# Altium footprint library Connector_Phoenix_GMSTB.PcbLib: 88 footprints (part 5 of 6)
Each footprint in its own frame and in the unit in brackets; x right, y up, seen from the top. Pads: shape width x height; smd on the part's side, far side on the other; paste and mask are expansions set on the pad; w line width, h text height; cw(c..) or ccw(c..) is an arc to the next point about the centre after c.
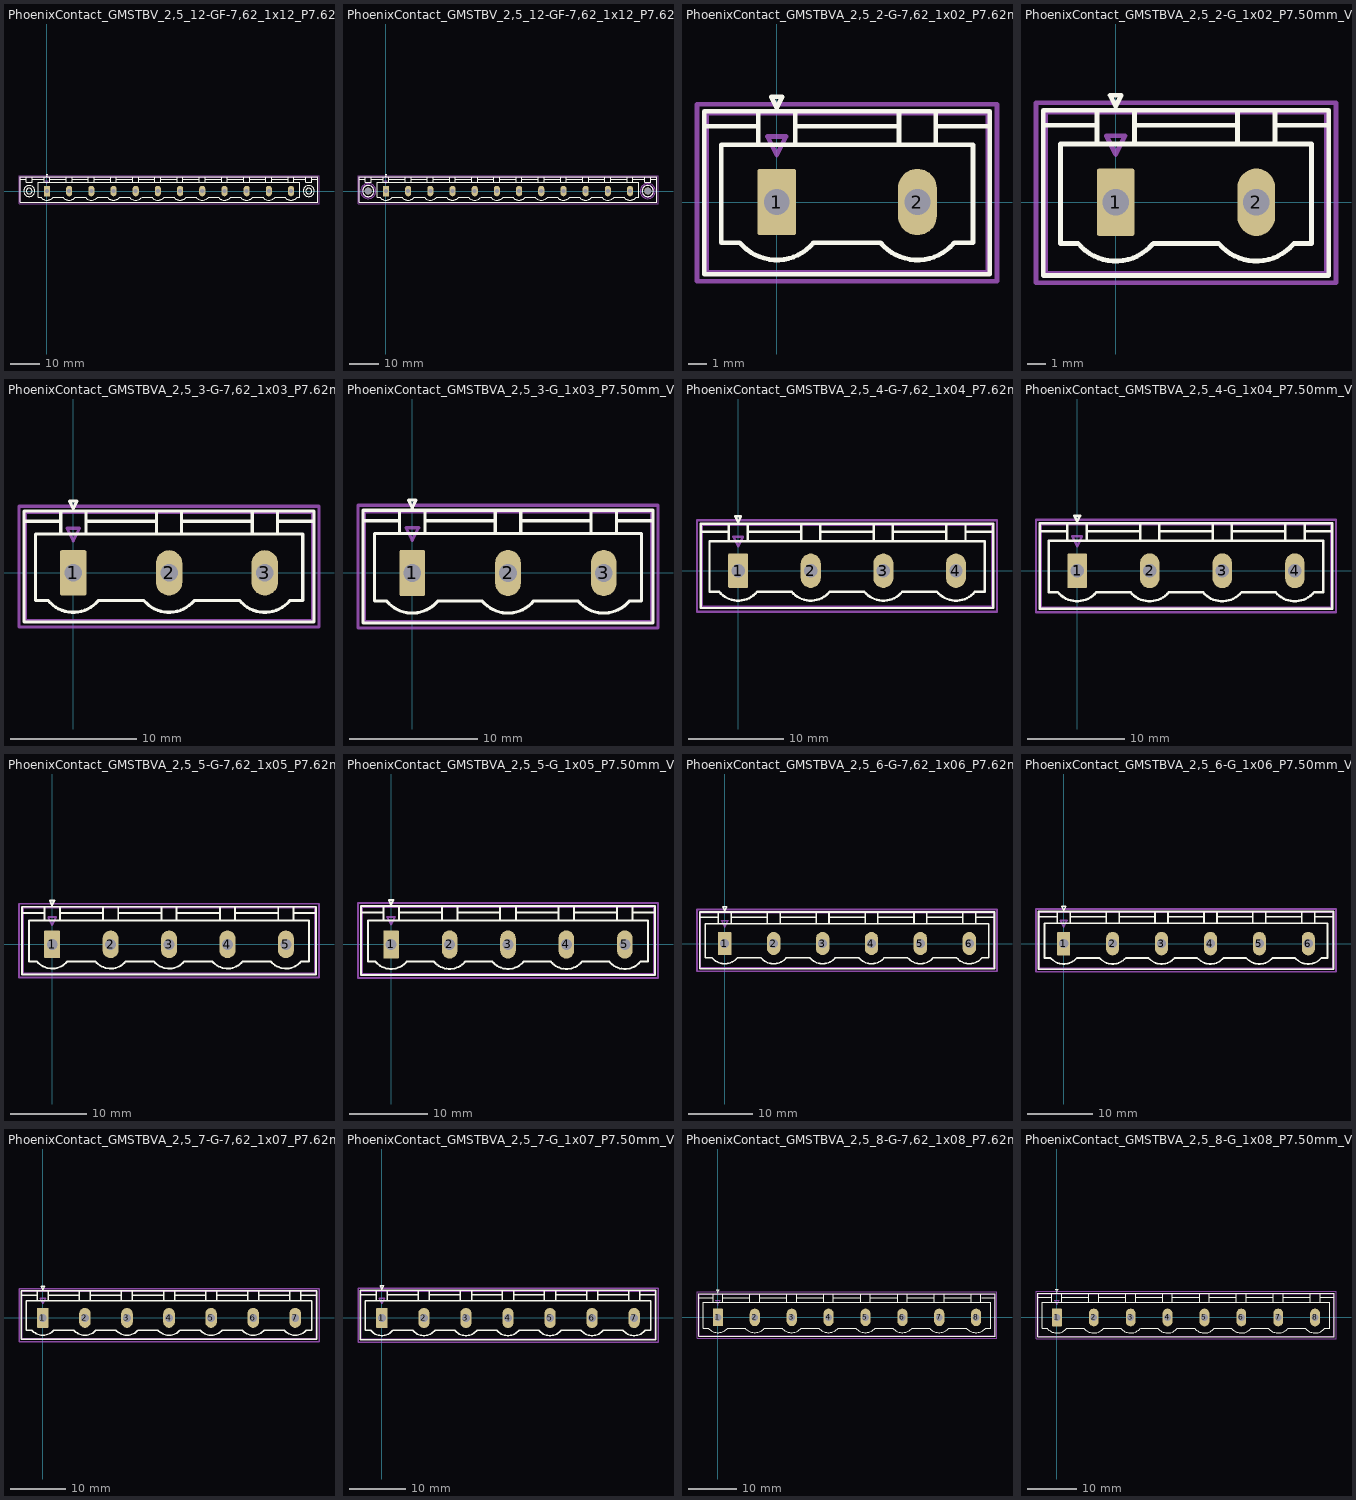
[diagram p4: the footprints below, top view; thin cyan lines are the x and y axes]

## PhoenixContact_GMSTBV_2,5_12-GF-7,62_1x12_P7.62mm_Vertical_ThreadedFlange [mm]
pads (12):
  rrect12% 2.1x3.6 hole 1.4: 1(0,0)
  rrect100% 2.1x3.6 hole 1.4: 2(7.62,0) 3(15.24,0) 4(22.86,0) 5(30.48,0) 6(38.1,0) 7(45.72,0) 8(53.34,0) 9(60.96,0) 10(68.58,0) 11(76.2,0) 12(83.82,0)
F.SilkS:
  circle w0.254: c89.92,0 r1.9
  circle w0.254: c89.92,0 r1
  circle w0.254: c-6.1,0 r1.9
  circle w0.254: c-6.1,0 r1
  lines w0.254: -9.21,4.1 -7.21,4.1 ; -5.1,4.1 -1,4.1 ; 1,4.1 6.62,4.1 ; 1.987,-2.216 cw(c0,-0.55) -2,-2.2 -3.01,-2.2 -3.01,3.1 86.83,3.1 86.83,-2.2 85.82,-2.2 ; 2,-2.2 5.62,-2.2 ccw(c7.62,-0.55) 9.607,-2.216 ; 8.62,4.1 14.24,4.1 ; 9.62,-2.2 13.24,-2.2 ccw(c15.24,-0.55) 17.227,-2.216 ; 16.24,4.1 21.86,4.1 ; 17.24,-2.2 20.86,-2.2 ccw(c22.86,-0.55) 24.847,-2.216 ; 23.86,4.1 29.48,4.1 ; 24.86,-2.2 28.48,-2.2 ccw(c30.48,-0.55) 32.467,-2.216 ; 31.48,4.1 37.1,4.1 ; 32.48,-2.2 36.1,-2.2 ccw(c38.1,-0.55) 40.087,-2.216 ; 39.1,4.1 44.72,4.1 ; 40.1,-2.2 43.72,-2.2 ccw(c45.72,-0.55) 47.707,-2.216 ; 46.72,4.1 52.34,4.1 ; 47.72,-2.2 51.34,-2.2 ccw(c53.34,-0.55) 55.327,-2.216 ; 54.34,4.1 59.96,4.1 ; 55.34,-2.2 58.96,-2.2 ccw(c60.96,-0.55) 62.947,-2.216 ; 61.96,4.1 67.58,4.1 ; 62.96,-2.2 66.58,-2.2 ccw(c68.58,-0.55) 70.567,-2.216 ; 69.58,4.1 75.2,4.1 ; 70.58,-2.2 74.2,-2.2 ccw(c76.2,-0.55) 78.187,-2.216 ; 77.2,4.1 82.82,4.1 ; 78.2,-2.2 81.82,-2.2 ccw(c83.82,-0.55) 85.807,-2.216 ; 84.82,4.1 88.92,4.1 ; 91.03,4.1 93.03,4.1 ; -9.21,-3.91 93.03,-3.91 93.03,4.91 -9.21,4.91 -9.21,-3.91 ; -7.1,3.1 -5.1,3.1 -5.1,4.91 -7.1,4.91 -7.1,3.1 ; -1,3.1 1,3.1 1,4.91 -1,4.91 -1,3.1 ; -0.3,5.71 0,5.11 0.3,5.71 -0.3,5.71 ; 6.62,3.1 8.62,3.1 8.62,4.91 6.62,4.91 6.62,3.1 ; 14.24,3.1 16.24,3.1 16.24,4.91 14.24,4.91 14.24,3.1 ; 21.86,3.1 23.86,3.1 23.86,4.91 21.86,4.91 21.86,3.1 ; 29.48,3.1 31.48,3.1 31.48,4.91 29.48,4.91 29.48,3.1 ; 37.1,3.1 39.1,3.1 39.1,4.91 37.1,4.91 37.1,3.1 ; 44.72,3.1 46.72,3.1 46.72,4.91 44.72,4.91 44.72,3.1 ; 52.34,3.1 54.34,3.1 54.34,4.91 52.34,4.91 52.34,3.1 ; 59.96,3.1 61.96,3.1 61.96,4.91 59.96,4.91 59.96,3.1 ; 67.58,3.1 69.58,3.1 69.58,4.91 67.58,4.91 67.58,3.1 ; 75.2,3.1 77.2,3.1 77.2,4.91 75.2,4.91 75.2,3.1 ; 82.82,3.1 84.82,3.1 84.82,4.91 82.82,4.91 82.82,3.1 ; 88.92,3.1 90.92,3.1 90.92,4.91 88.92,4.91 88.92,3.1
Top Assembly:
  lines w0.254: -9.1,-3.8 92.92,-3.8 92.92,4.8 -9.1,4.8 -9.1,-3.8 ; -0.5,3.55 0,2.55 0.5,3.55 -0.5,3.55
  text "'.Designator'" at 37.863,3.26 h1
Top Courtyard:
  lines w0.254: -9.6,-4.3 93.43,-4.3 93.43,5.3 -9.6,5.3 -9.6,-4.3
Top Designator:
  text ".Designator" at 34.297,0.197 h1.52

## PhoenixContact_GMSTBV_2,5_12-GF-7,62_1x12_P7.62mm_Vertical_ThreadedFlange_MountHole [mm]
pads (14):
  rrect12% 2.1x3.6 hole 1.4: 1(0,0)
  rrect100% 2.1x3.6 hole 1.4: 2(7.62,0) 3(15.24,0) 4(22.86,0) 5(30.48,0) 6(38.1,0) 7(45.72,0) 8(53.34,0) 9(60.96,0) 10(68.58,0) 11(76.2,0) 12(83.82,0)
  round 2.4 hole 2.4: Un1(-6.1,0) Un2(89.92,0)
F.SilkS:
  circle w0.254: c89.92,0 r1.9
  circle w0.254: c-6.1,0 r1.9
  lines w0.254: -9.21,4.1 -7.21,4.1 ; -5.1,4.1 -1,4.1 ; 1,4.1 6.62,4.1 ; 1.987,-2.216 cw(c0,-0.55) -2,-2.2 -3.01,-2.2 -3.01,3.1 86.83,3.1 86.83,-2.2 85.82,-2.2 ; 2,-2.2 5.62,-2.2 ccw(c7.62,-0.55) 9.607,-2.216 ; 8.62,4.1 14.24,4.1 ; 9.62,-2.2 13.24,-2.2 ccw(c15.24,-0.55) 17.227,-2.216 ; 16.24,4.1 21.86,4.1 ; 17.24,-2.2 20.86,-2.2 ccw(c22.86,-0.55) 24.847,-2.216 ; 23.86,4.1 29.48,4.1 ; 24.86,-2.2 28.48,-2.2 ccw(c30.48,-0.55) 32.467,-2.216 ; 31.48,4.1 37.1,4.1 ; 32.48,-2.2 36.1,-2.2 ccw(c38.1,-0.55) 40.087,-2.216 ; 39.1,4.1 44.72,4.1 ; 40.1,-2.2 43.72,-2.2 ccw(c45.72,-0.55) 47.707,-2.216 ; 46.72,4.1 52.34,4.1 ; 47.72,-2.2 51.34,-2.2 ccw(c53.34,-0.55) 55.327,-2.216 ; 54.34,4.1 59.96,4.1 ; 55.34,-2.2 58.96,-2.2 ccw(c60.96,-0.55) 62.947,-2.216 ; 61.96,4.1 67.58,4.1 ; 62.96,-2.2 66.58,-2.2 ccw(c68.58,-0.55) 70.567,-2.216 ; 69.58,4.1 75.2,4.1 ; 70.58,-2.2 74.2,-2.2 ccw(c76.2,-0.55) 78.187,-2.216 ; 77.2,4.1 82.82,4.1 ; 78.2,-2.2 81.82,-2.2 ccw(c83.82,-0.55) 85.807,-2.216 ; 84.82,4.1 88.92,4.1 ; 91.03,4.1 93.03,4.1 ; -9.21,-3.91 93.03,-3.91 93.03,4.91 -9.21,4.91 -9.21,-3.91 ; -7.1,3.1 -5.1,3.1 -5.1,4.91 -7.1,4.91 -7.1,3.1 ; -1,3.1 1,3.1 1,4.91 -1,4.91 -1,3.1 ; -0.3,5.71 0,5.11 0.3,5.71 -0.3,5.71 ; 6.62,3.1 8.62,3.1 8.62,4.91 6.62,4.91 6.62,3.1 ; 14.24,3.1 16.24,3.1 16.24,4.91 14.24,4.91 14.24,3.1 ; 21.86,3.1 23.86,3.1 23.86,4.91 21.86,4.91 21.86,3.1 ; 29.48,3.1 31.48,3.1 31.48,4.91 29.48,4.91 29.48,3.1 ; 37.1,3.1 39.1,3.1 39.1,4.91 37.1,4.91 37.1,3.1 ; 44.72,3.1 46.72,3.1 46.72,4.91 44.72,4.91 44.72,3.1 ; 52.34,3.1 54.34,3.1 54.34,4.91 52.34,4.91 52.34,3.1 ; 59.96,3.1 61.96,3.1 61.96,4.91 59.96,4.91 59.96,3.1 ; 67.58,3.1 69.58,3.1 69.58,4.91 67.58,4.91 67.58,3.1 ; 75.2,3.1 77.2,3.1 77.2,4.91 75.2,4.91 75.2,3.1 ; 82.82,3.1 84.82,3.1 84.82,4.91 82.82,4.91 82.82,3.1 ; 88.92,3.1 90.92,3.1 90.92,4.91 88.92,4.91 88.92,3.1
B.SilkS:
  circle w0.254: c89.92,0 r2.21
  circle w0.254: c-6.1,0 r2.21
Top Assembly:
  lines w0.254: -9.1,-3.8 92.92,-3.8 92.92,4.8 -9.1,4.8 -9.1,-3.8 ; -0.5,3.55 0,2.55 0.5,3.55 -0.5,3.55
  text "'.Designator'" at 37.863,3.26 h1
Bottom Assembly:
  circle w0.254: c89.92,0 r2.1
  circle w0.254: c-6.1,0 r2.1
Top Courtyard:
  lines w0.254: -9.6,-4.3 93.43,-4.3 93.43,5.3 -9.6,5.3 -9.6,-4.3
Bottom Courtyard:
  circle w0.254: c89.92,0 r2.6
  circle w0.254: c-6.1,0 r2.6
Top Designator:
  text ".Designator" at 34.297,0.197 h1.52

## PhoenixContact_GMSTBVA_2,5_2-G-7,62_1x02_P7.62mm_Vertical [mm]
pads (2):
  rrect12% 2.1x3.6 hole 1.4: 1(0,0)
  rrect100% 2.1x3.6 hole 1.4: 2(7.62,0)
F.SilkS:
  lines w0.254: -3.92,4.1 -1.11,4.1 ; 1,4.1 6.62,4.1 ; 1.987,-2.216 cw(c0,-0.55) -2,-2.2 -3.01,-2.2 -3.01,3.1 10.63,3.1 10.63,-2.2 9.62,-2.2 ; 2,-2.2 5.62,-2.2 ccw(c7.62,-0.55) 9.607,-2.216 ; 8.73,4.1 11.54,4.1 ; -3.92,-3.91 11.54,-3.91 11.54,4.91 -3.92,4.91 -3.92,-3.91 ; -1,3.1 1,3.1 1,4.91 -1,4.91 -1,3.1 ; -0.3,5.71 0,5.11 0.3,5.71 -0.3,5.71 ; 6.62,3.1 8.62,3.1 8.62,4.91 6.62,4.91 6.62,3.1
Top Assembly:
  lines w0.254: -3.81,-3.8 11.43,-3.8 11.43,4.8 -3.81,4.8 -3.81,-3.8 ; -0.5,3.55 0,2.55 0.5,3.55 -0.5,3.55
  text "'.Designator'" at -0.237,3.26 h1
Top Courtyard:
  lines w0.254: -4.32,-4.3 11.93,-4.3 11.93,5.3 -4.32,5.3 -4.32,-4.3
Top Designator:
  text ".Designator" at -3.813,0.197 h1.52

## PhoenixContact_GMSTBVA_2,5_2-G_1x02_P7.50mm_Vertical [mm]
pads (2):
  rrect12% 2x3.6 hole 1.4: 1(0,0)
  rrect100% 2x3.6 hole 1.4: 2(7.5,0)
F.SilkS:
  lines w0.254: -3.86,4.1 -1.11,4.1 ; 1,4.1 6.5,4.1 ; 1.987,-2.216 cw(c0,-0.55) -2,-2.2 -2.95,-2.2 -2.95,3.1 10.45,3.1 10.45,-2.2 9.5,-2.2 ; 2,-2.2 5.5,-2.2 ccw(c7.5,-0.55) 9.487,-2.216 ; 8.61,4.1 11.36,4.1 ; -3.86,-3.91 11.36,-3.91 11.36,4.91 -3.86,4.91 -3.86,-3.91 ; -1,3.1 1,3.1 1,4.91 -1,4.91 -1,3.1 ; -0.3,5.71 0,5.11 0.3,5.71 -0.3,5.71 ; 6.5,3.1 8.5,3.1 8.5,4.91 6.5,4.91 6.5,3.1
Top Assembly:
  lines w0.254: -3.75,-3.8 11.25,-3.8 11.25,4.8 -3.75,4.8 -3.75,-3.8 ; -0.5,3.55 0,2.55 0.5,3.55 -0.5,3.55
  text "'.Designator'" at -0.297,3.26 h1
Top Courtyard:
  lines w0.254: -4.25,-4.3 11.75,-4.3 11.75,5.3 -4.25,5.3 -4.25,-4.3
Top Designator:
  text ".Designator" at -3.868,0.197 h1.52

## PhoenixContact_GMSTBVA_2,5_3-G-7,62_1x03_P7.62mm_Vertical [mm]
pads (3):
  rrect12% 2.1x3.6 hole 1.4: 1(0,0)
  rrect100% 2.1x3.6 hole 1.4: 2(7.62,0) 3(15.24,0)
F.SilkS:
  lines w0.254: -3.92,4.1 -1.11,4.1 ; 1,4.1 6.62,4.1 ; 1.987,-2.216 cw(c0,-0.55) -2,-2.2 -3.01,-2.2 -3.01,3.1 18.25,3.1 18.25,-2.2 17.24,-2.2 ; 2,-2.2 5.62,-2.2 ccw(c7.62,-0.55) 9.607,-2.216 ; 8.62,4.1 14.24,4.1 ; 9.62,-2.2 13.24,-2.2 ccw(c15.24,-0.55) 17.227,-2.216 ; 16.35,4.1 19.16,4.1 ; -3.92,-3.91 19.16,-3.91 19.16,4.91 -3.92,4.91 -3.92,-3.91 ; -1,3.1 1,3.1 1,4.91 -1,4.91 -1,3.1 ; -0.3,5.71 0,5.11 0.3,5.71 -0.3,5.71 ; 6.62,3.1 8.62,3.1 8.62,4.91 6.62,4.91 6.62,3.1 ; 14.24,3.1 16.24,3.1 16.24,4.91 14.24,4.91 14.24,3.1
Top Assembly:
  lines w0.254: -3.81,-3.8 19.05,-3.8 19.05,4.8 -3.81,4.8 -3.81,-3.8 ; -0.5,3.55 0,2.55 0.5,3.55 -0.5,3.55
  text "'.Designator'" at 3.573,3.26 h1
Top Courtyard:
  lines w0.254: -4.32,-4.3 19.55,-4.3 19.55,5.3 -4.32,5.3 -4.32,-4.3
Top Designator:
  text ".Designator" at -0.003,0.197 h1.52

## PhoenixContact_GMSTBVA_2,5_3-G_1x03_P7.50mm_Vertical [mm]
pads (3):
  rrect12% 2x3.6 hole 1.4: 1(0,0)
  rrect100% 2x3.6 hole 1.4: 2(7.5,0) 3(15,0)
F.SilkS:
  lines w0.254: -3.86,4.1 -1.11,4.1 ; 1,4.1 6.5,4.1 ; 1.987,-2.216 cw(c0,-0.55) -2,-2.2 -2.95,-2.2 -2.95,3.1 17.95,3.1 17.95,-2.2 17,-2.2 ; 2,-2.2 5.5,-2.2 ccw(c7.5,-0.55) 9.487,-2.216 ; 8.5,4.1 14,4.1 ; 9.5,-2.2 13,-2.2 ccw(c15,-0.55) 16.987,-2.216 ; 16.11,4.1 18.86,4.1 ; -3.86,-3.91 18.86,-3.91 18.86,4.91 -3.86,4.91 -3.86,-3.91 ; -1,3.1 1,3.1 1,4.91 -1,4.91 -1,3.1 ; -0.3,5.71 0,5.11 0.3,5.71 -0.3,5.71 ; 6.5,3.1 8.5,3.1 8.5,4.91 6.5,4.91 6.5,3.1 ; 14,3.1 16,3.1 16,4.91 14,4.91 14,3.1
Top Assembly:
  lines w0.254: -3.75,-3.8 18.75,-3.8 18.75,4.8 -3.75,4.8 -3.75,-3.8 ; -0.5,3.55 0,2.55 0.5,3.55 -0.5,3.55
  text "'.Designator'" at 3.453,3.26 h1
Top Courtyard:
  lines w0.254: -4.25,-4.3 19.25,-4.3 19.25,5.3 -4.25,5.3 -4.25,-4.3
Top Designator:
  text ".Designator" at -0.118,0.197 h1.52

## PhoenixContact_GMSTBVA_2,5_4-G-7,62_1x04_P7.62mm_Vertical [mm]
pads (4):
  rrect12% 2.1x3.6 hole 1.4: 1(0,0)
  rrect100% 2.1x3.6 hole 1.4: 2(7.62,0) 3(15.24,0) 4(22.86,0)
F.SilkS:
  lines w0.254: -3.92,4.1 -1.11,4.1 ; 1,4.1 6.62,4.1 ; 1.987,-2.216 cw(c0,-0.55) -2,-2.2 -3.01,-2.2 -3.01,3.1 25.87,3.1 25.87,-2.2 24.86,-2.2 ; 2,-2.2 5.62,-2.2 ccw(c7.62,-0.55) 9.607,-2.216 ; 8.62,4.1 14.24,4.1 ; 9.62,-2.2 13.24,-2.2 ccw(c15.24,-0.55) 17.227,-2.216 ; 16.24,4.1 21.86,4.1 ; 17.24,-2.2 20.86,-2.2 ccw(c22.86,-0.55) 24.847,-2.216 ; 23.97,4.1 26.78,4.1 ; -3.92,-3.91 26.78,-3.91 26.78,4.91 -3.92,4.91 -3.92,-3.91 ; -1,3.1 1,3.1 1,4.91 -1,4.91 -1,3.1 ; -0.3,5.71 0,5.11 0.3,5.71 -0.3,5.71 ; 6.62,3.1 8.62,3.1 8.62,4.91 6.62,4.91 6.62,3.1 ; 14.24,3.1 16.24,3.1 16.24,4.91 14.24,4.91 14.24,3.1 ; 21.86,3.1 23.86,3.1 23.86,4.91 21.86,4.91 21.86,3.1
Top Assembly:
  lines w0.254: -3.81,-3.8 26.67,-3.8 26.67,4.8 -3.81,4.8 -3.81,-3.8 ; -0.5,3.55 0,2.55 0.5,3.55 -0.5,3.55
  text "'.Designator'" at 7.383,3.26 h1
Top Courtyard:
  lines w0.254: -4.32,-4.3 27.17,-4.3 27.17,5.3 -4.32,5.3 -4.32,-4.3
Top Designator:
  text ".Designator" at 3.807,0.197 h1.52

## PhoenixContact_GMSTBVA_2,5_4-G_1x04_P7.50mm_Vertical [mm]
pads (4):
  rrect12% 2x3.6 hole 1.4: 1(0,0)
  rrect100% 2x3.6 hole 1.4: 2(7.5,0) 3(15,0) 4(22.5,0)
F.SilkS:
  lines w0.254: -3.86,4.1 -1.11,4.1 ; 1,4.1 6.5,4.1 ; 1.987,-2.216 cw(c0,-0.55) -2,-2.2 -2.95,-2.2 -2.95,3.1 25.45,3.1 25.45,-2.2 24.5,-2.2 ; 2,-2.2 5.5,-2.2 ccw(c7.5,-0.55) 9.487,-2.216 ; 8.5,4.1 14,4.1 ; 9.5,-2.2 13,-2.2 ccw(c15,-0.55) 16.987,-2.216 ; 16,4.1 21.5,4.1 ; 17,-2.2 20.5,-2.2 ccw(c22.5,-0.55) 24.487,-2.216 ; 23.61,4.1 26.36,4.1 ; -3.86,-3.91 26.36,-3.91 26.36,4.91 -3.86,4.91 -3.86,-3.91 ; -1,3.1 1,3.1 1,4.91 -1,4.91 -1,3.1 ; -0.3,5.71 0,5.11 0.3,5.71 -0.3,5.71 ; 6.5,3.1 8.5,3.1 8.5,4.91 6.5,4.91 6.5,3.1 ; 14,3.1 16,3.1 16,4.91 14,4.91 14,3.1 ; 21.5,3.1 23.5,3.1 23.5,4.91 21.5,4.91 21.5,3.1
Top Assembly:
  lines w0.254: -3.75,-3.8 26.25,-3.8 26.25,4.8 -3.75,4.8 -3.75,-3.8 ; -0.5,3.55 0,2.55 0.5,3.55 -0.5,3.55
  text "'.Designator'" at 7.203,3.26 h1
Top Courtyard:
  lines w0.254: -4.25,-4.3 26.75,-4.3 26.75,5.3 -4.25,5.3 -4.25,-4.3
Top Designator:
  text ".Designator" at 3.632,0.197 h1.52

## PhoenixContact_GMSTBVA_2,5_5-G-7,62_1x05_P7.62mm_Vertical [mm]
pads (5):
  rrect12% 2.1x3.6 hole 1.4: 1(0,0)
  rrect100% 2.1x3.6 hole 1.4: 2(7.62,0) 3(15.24,0) 4(22.86,0) 5(30.48,0)
F.SilkS:
  lines w0.254: -3.92,4.1 -1.11,4.1 ; 1,4.1 6.62,4.1 ; 1.987,-2.216 cw(c0,-0.55) -2,-2.2 -3.01,-2.2 -3.01,3.1 33.49,3.1 33.49,-2.2 32.48,-2.2 ; 2,-2.2 5.62,-2.2 ccw(c7.62,-0.55) 9.607,-2.216 ; 8.62,4.1 14.24,4.1 ; 9.62,-2.2 13.24,-2.2 ccw(c15.24,-0.55) 17.227,-2.216 ; 16.24,4.1 21.86,4.1 ; 17.24,-2.2 20.86,-2.2 ccw(c22.86,-0.55) 24.847,-2.216 ; 23.86,4.1 29.48,4.1 ; 24.86,-2.2 28.48,-2.2 ccw(c30.48,-0.55) 32.467,-2.216 ; 31.59,4.1 34.4,4.1 ; -3.92,-3.91 34.4,-3.91 34.4,4.91 -3.92,4.91 -3.92,-3.91 ; -1,3.1 1,3.1 1,4.91 -1,4.91 -1,3.1 ; -0.3,5.71 0,5.11 0.3,5.71 -0.3,5.71 ; 6.62,3.1 8.62,3.1 8.62,4.91 6.62,4.91 6.62,3.1 ; 14.24,3.1 16.24,3.1 16.24,4.91 14.24,4.91 14.24,3.1 ; 21.86,3.1 23.86,3.1 23.86,4.91 21.86,4.91 21.86,3.1 ; 29.48,3.1 31.48,3.1 31.48,4.91 29.48,4.91 29.48,3.1
Top Assembly:
  lines w0.254: -3.81,-3.8 34.29,-3.8 34.29,4.8 -3.81,4.8 -3.81,-3.8 ; -0.5,3.55 0,2.55 0.5,3.55 -0.5,3.55
  text "'.Designator'" at 11.193,3.26 h1
Top Courtyard:
  lines w0.254: -4.32,-4.3 34.79,-4.3 34.79,5.3 -4.32,5.3 -4.32,-4.3
Top Designator:
  text ".Designator" at 7.617,0.197 h1.52

## PhoenixContact_GMSTBVA_2,5_5-G_1x05_P7.50mm_Vertical [mm]
pads (5):
  rrect12% 2x3.6 hole 1.4: 1(0,0)
  rrect100% 2x3.6 hole 1.4: 2(7.5,0) 3(15,0) 4(22.5,0) 5(30,0)
F.SilkS:
  lines w0.254: -3.86,4.1 -1.11,4.1 ; 1,4.1 6.5,4.1 ; 1.987,-2.216 cw(c0,-0.55) -2,-2.2 -2.95,-2.2 -2.95,3.1 32.95,3.1 32.95,-2.2 32,-2.2 ; 2,-2.2 5.5,-2.2 ccw(c7.5,-0.55) 9.487,-2.216 ; 8.5,4.1 14,4.1 ; 9.5,-2.2 13,-2.2 ccw(c15,-0.55) 16.987,-2.216 ; 16,4.1 21.5,4.1 ; 17,-2.2 20.5,-2.2 ccw(c22.5,-0.55) 24.487,-2.216 ; 23.5,4.1 29,4.1 ; 24.5,-2.2 28,-2.2 ccw(c30,-0.55) 31.987,-2.216 ; 31.11,4.1 33.86,4.1 ; -3.86,-3.91 33.86,-3.91 33.86,4.91 -3.86,4.91 -3.86,-3.91 ; -1,3.1 1,3.1 1,4.91 -1,4.91 -1,3.1 ; -0.3,5.71 0,5.11 0.3,5.71 -0.3,5.71 ; 6.5,3.1 8.5,3.1 8.5,4.91 6.5,4.91 6.5,3.1 ; 14,3.1 16,3.1 16,4.91 14,4.91 14,3.1 ; 21.5,3.1 23.5,3.1 23.5,4.91 21.5,4.91 21.5,3.1 ; 29,3.1 31,3.1 31,4.91 29,4.91 29,3.1
Top Assembly:
  lines w0.254: -3.75,-3.8 33.75,-3.8 33.75,4.8 -3.75,4.8 -3.75,-3.8 ; -0.5,3.55 0,2.55 0.5,3.55 -0.5,3.55
  text "'.Designator'" at 10.953,3.26 h1
Top Courtyard:
  lines w0.254: -4.25,-4.3 34.25,-4.3 34.25,5.3 -4.25,5.3 -4.25,-4.3
Top Designator:
  text ".Designator" at 7.382,0.197 h1.52

## PhoenixContact_GMSTBVA_2,5_6-G-7,62_1x06_P7.62mm_Vertical [mm]
pads (6):
  rrect12% 2.1x3.6 hole 1.4: 1(0,0)
  rrect100% 2.1x3.6 hole 1.4: 2(7.62,0) 3(15.24,0) 4(22.86,0) 5(30.48,0) 6(38.1,0)
F.SilkS:
  lines w0.254: -3.92,4.1 -1.11,4.1 ; 1,4.1 6.62,4.1 ; 1.987,-2.216 cw(c0,-0.55) -2,-2.2 -3.01,-2.2 -3.01,3.1 41.11,3.1 41.11,-2.2 40.1,-2.2 ; 2,-2.2 5.62,-2.2 ccw(c7.62,-0.55) 9.607,-2.216 ; 8.62,4.1 14.24,4.1 ; 9.62,-2.2 13.24,-2.2 ccw(c15.24,-0.55) 17.227,-2.216 ; 16.24,4.1 21.86,4.1 ; 17.24,-2.2 20.86,-2.2 ccw(c22.86,-0.55) 24.847,-2.216 ; 23.86,4.1 29.48,4.1 ; 24.86,-2.2 28.48,-2.2 ccw(c30.48,-0.55) 32.467,-2.216 ; 31.48,4.1 37.1,4.1 ; 32.48,-2.2 36.1,-2.2 ccw(c38.1,-0.55) 40.087,-2.216 ; 39.21,4.1 42.02,4.1 ; -3.92,-3.91 42.02,-3.91 42.02,4.91 -3.92,4.91 -3.92,-3.91 ; -1,3.1 1,3.1 1,4.91 -1,4.91 -1,3.1 ; -0.3,5.71 0,5.11 0.3,5.71 -0.3,5.71 ; 6.62,3.1 8.62,3.1 8.62,4.91 6.62,4.91 6.62,3.1 ; 14.24,3.1 16.24,3.1 16.24,4.91 14.24,4.91 14.24,3.1 ; 21.86,3.1 23.86,3.1 23.86,4.91 21.86,4.91 21.86,3.1 ; 29.48,3.1 31.48,3.1 31.48,4.91 29.48,4.91 29.48,3.1 ; 37.1,3.1 39.1,3.1 39.1,4.91 37.1,4.91 37.1,3.1
Top Assembly:
  lines w0.254: -3.81,-3.8 41.91,-3.8 41.91,4.8 -3.81,4.8 -3.81,-3.8 ; -0.5,3.55 0,2.55 0.5,3.55 -0.5,3.55
  text "'.Designator'" at 15.003,3.26 h1
Top Courtyard:
  lines w0.254: -4.32,-4.3 42.41,-4.3 42.41,5.3 -4.32,5.3 -4.32,-4.3
Top Designator:
  text ".Designator" at 11.427,0.197 h1.52

## PhoenixContact_GMSTBVA_2,5_6-G_1x06_P7.50mm_Vertical [mm]
pads (6):
  rrect12% 2x3.6 hole 1.4: 1(0,0)
  rrect100% 2x3.6 hole 1.4: 2(7.5,0) 3(15,0) 4(22.5,0) 5(30,0) 6(37.5,0)
F.SilkS:
  lines w0.254: -3.86,4.1 -1.11,4.1 ; 1,4.1 6.5,4.1 ; 1.987,-2.216 cw(c0,-0.55) -2,-2.2 -2.95,-2.2 -2.95,3.1 40.45,3.1 40.45,-2.2 39.5,-2.2 ; 2,-2.2 5.5,-2.2 ccw(c7.5,-0.55) 9.487,-2.216 ; 8.5,4.1 14,4.1 ; 9.5,-2.2 13,-2.2 ccw(c15,-0.55) 16.987,-2.216 ; 16,4.1 21.5,4.1 ; 17,-2.2 20.5,-2.2 ccw(c22.5,-0.55) 24.487,-2.216 ; 23.5,4.1 29,4.1 ; 24.5,-2.2 28,-2.2 ccw(c30,-0.55) 31.987,-2.216 ; 31,4.1 36.5,4.1 ; 32,-2.2 35.5,-2.2 ccw(c37.5,-0.55) 39.487,-2.216 ; 38.61,4.1 41.36,4.1 ; -3.86,-3.91 41.36,-3.91 41.36,4.91 -3.86,4.91 -3.86,-3.91 ; -1,3.1 1,3.1 1,4.91 -1,4.91 -1,3.1 ; -0.3,5.71 0,5.11 0.3,5.71 -0.3,5.71 ; 6.5,3.1 8.5,3.1 8.5,4.91 6.5,4.91 6.5,3.1 ; 14,3.1 16,3.1 16,4.91 14,4.91 14,3.1 ; 21.5,3.1 23.5,3.1 23.5,4.91 21.5,4.91 21.5,3.1 ; 29,3.1 31,3.1 31,4.91 29,4.91 29,3.1 ; 36.5,3.1 38.5,3.1 38.5,4.91 36.5,4.91 36.5,3.1
Top Assembly:
  lines w0.254: -3.75,-3.8 41.25,-3.8 41.25,4.8 -3.75,4.8 -3.75,-3.8 ; -0.5,3.55 0,2.55 0.5,3.55 -0.5,3.55
  text "'.Designator'" at 14.703,3.26 h1
Top Courtyard:
  lines w0.254: -4.25,-4.3 41.75,-4.3 41.75,5.3 -4.25,5.3 -4.25,-4.3
Top Designator:
  text ".Designator" at 11.132,0.197 h1.52

## PhoenixContact_GMSTBVA_2,5_7-G-7,62_1x07_P7.62mm_Vertical [mm]
pads (7):
  rrect12% 2.1x3.6 hole 1.4: 1(0,0)
  rrect100% 2.1x3.6 hole 1.4: 2(7.62,0) 3(15.24,0) 4(22.86,0) 5(30.48,0) 6(38.1,0) 7(45.72,0)
F.SilkS:
  lines w0.254: -3.92,4.1 -1.11,4.1 ; 1,4.1 6.62,4.1 ; 1.987,-2.216 cw(c0,-0.55) -2,-2.2 -3.01,-2.2 -3.01,3.1 48.73,3.1 48.73,-2.2 47.72,-2.2 ; 2,-2.2 5.62,-2.2 ccw(c7.62,-0.55) 9.607,-2.216 ; 8.62,4.1 14.24,4.1 ; 9.62,-2.2 13.24,-2.2 ccw(c15.24,-0.55) 17.227,-2.216 ; 16.24,4.1 21.86,4.1 ; 17.24,-2.2 20.86,-2.2 ccw(c22.86,-0.55) 24.847,-2.216 ; 23.86,4.1 29.48,4.1 ; 24.86,-2.2 28.48,-2.2 ccw(c30.48,-0.55) 32.467,-2.216 ; 31.48,4.1 37.1,4.1 ; 32.48,-2.2 36.1,-2.2 ccw(c38.1,-0.55) 40.087,-2.216 ; 39.1,4.1 44.72,4.1 ; 40.1,-2.2 43.72,-2.2 ccw(c45.72,-0.55) 47.707,-2.216 ; 46.83,4.1 49.64,4.1 ; -3.92,-3.91 49.64,-3.91 49.64,4.91 -3.92,4.91 -3.92,-3.91 ; -1,3.1 1,3.1 1,4.91 -1,4.91 -1,3.1 ; -0.3,5.71 0,5.11 0.3,5.71 -0.3,5.71 ; 6.62,3.1 8.62,3.1 8.62,4.91 6.62,4.91 6.62,3.1 ; 14.24,3.1 16.24,3.1 16.24,4.91 14.24,4.91 14.24,3.1 ; 21.86,3.1 23.86,3.1 23.86,4.91 21.86,4.91 21.86,3.1 ; 29.48,3.1 31.48,3.1 31.48,4.91 29.48,4.91 29.48,3.1 ; 37.1,3.1 39.1,3.1 39.1,4.91 37.1,4.91 37.1,3.1 ; 44.72,3.1 46.72,3.1 46.72,4.91 44.72,4.91 44.72,3.1
Top Assembly:
  lines w0.254: -3.81,-3.8 49.53,-3.8 49.53,4.8 -3.81,4.8 -3.81,-3.8 ; -0.5,3.55 0,2.55 0.5,3.55 -0.5,3.55
  text "'.Designator'" at 18.813,3.26 h1
Top Courtyard:
  lines w0.254: -4.32,-4.3 50.03,-4.3 50.03,5.3 -4.32,5.3 -4.32,-4.3
Top Designator:
  text ".Designator" at 15.237,0.197 h1.52

## PhoenixContact_GMSTBVA_2,5_7-G_1x07_P7.50mm_Vertical [mm]
pads (7):
  rrect12% 2x3.6 hole 1.4: 1(0,0)
  rrect100% 2x3.6 hole 1.4: 2(7.5,0) 3(15,0) 4(22.5,0) 5(30,0) 6(37.5,0) 7(45,0)
F.SilkS:
  lines w0.254: -3.86,4.1 -1.11,4.1 ; 1,4.1 6.5,4.1 ; 1.987,-2.216 cw(c0,-0.55) -2,-2.2 -2.95,-2.2 -2.95,3.1 47.95,3.1 47.95,-2.2 47,-2.2 ; 2,-2.2 5.5,-2.2 ccw(c7.5,-0.55) 9.487,-2.216 ; 8.5,4.1 14,4.1 ; 9.5,-2.2 13,-2.2 ccw(c15,-0.55) 16.987,-2.216 ; 16,4.1 21.5,4.1 ; 17,-2.2 20.5,-2.2 ccw(c22.5,-0.55) 24.487,-2.216 ; 23.5,4.1 29,4.1 ; 24.5,-2.2 28,-2.2 ccw(c30,-0.55) 31.987,-2.216 ; 31,4.1 36.5,4.1 ; 32,-2.2 35.5,-2.2 ccw(c37.5,-0.55) 39.487,-2.216 ; 38.5,4.1 44,4.1 ; 39.5,-2.2 43,-2.2 ccw(c45,-0.55) 46.987,-2.216 ; 46.11,4.1 48.86,4.1 ; -3.86,-3.91 48.86,-3.91 48.86,4.91 -3.86,4.91 -3.86,-3.91 ; -1,3.1 1,3.1 1,4.91 -1,4.91 -1,3.1 ; -0.3,5.71 0,5.11 0.3,5.71 -0.3,5.71 ; 6.5,3.1 8.5,3.1 8.5,4.91 6.5,4.91 6.5,3.1 ; 14,3.1 16,3.1 16,4.91 14,4.91 14,3.1 ; 21.5,3.1 23.5,3.1 23.5,4.91 21.5,4.91 21.5,3.1 ; 29,3.1 31,3.1 31,4.91 29,4.91 29,3.1 ; 36.5,3.1 38.5,3.1 38.5,4.91 36.5,4.91 36.5,3.1 ; 44,3.1 46,3.1 46,4.91 44,4.91 44,3.1
Top Assembly:
  lines w0.254: -3.75,-3.8 48.75,-3.8 48.75,4.8 -3.75,4.8 -3.75,-3.8 ; -0.5,3.55 0,2.55 0.5,3.55 -0.5,3.55
  text "'.Designator'" at 18.453,3.26 h1
Top Courtyard:
  lines w0.254: -4.25,-4.3 49.25,-4.3 49.25,5.3 -4.25,5.3 -4.25,-4.3
Top Designator:
  text ".Designator" at 14.882,0.197 h1.52

## PhoenixContact_GMSTBVA_2,5_8-G-7,62_1x08_P7.62mm_Vertical [mm]
pads (8):
  rrect12% 2.1x3.6 hole 1.4: 1(0,0)
  rrect100% 2.1x3.6 hole 1.4: 2(7.62,0) 3(15.24,0) 4(22.86,0) 5(30.48,0) 6(38.1,0) 7(45.72,0) 8(53.34,0)
F.SilkS:
  lines w0.254: -3.92,4.1 -1.11,4.1 ; 1,4.1 6.62,4.1 ; 1.987,-2.216 cw(c0,-0.55) -2,-2.2 -3.01,-2.2 -3.01,3.1 56.35,3.1 56.35,-2.2 55.34,-2.2 ; 2,-2.2 5.62,-2.2 ccw(c7.62,-0.55) 9.607,-2.216 ; 8.62,4.1 14.24,4.1 ; 9.62,-2.2 13.24,-2.2 ccw(c15.24,-0.55) 17.227,-2.216 ; 16.24,4.1 21.86,4.1 ; 17.24,-2.2 20.86,-2.2 ccw(c22.86,-0.55) 24.847,-2.216 ; 23.86,4.1 29.48,4.1 ; 24.86,-2.2 28.48,-2.2 ccw(c30.48,-0.55) 32.467,-2.216 ; 31.48,4.1 37.1,4.1 ; 32.48,-2.2 36.1,-2.2 ccw(c38.1,-0.55) 40.087,-2.216 ; 39.1,4.1 44.72,4.1 ; 40.1,-2.2 43.72,-2.2 ccw(c45.72,-0.55) 47.707,-2.216 ; 46.72,4.1 52.34,4.1 ; 47.72,-2.2 51.34,-2.2 ccw(c53.34,-0.55) 55.327,-2.216 ; 54.45,4.1 57.26,4.1 ; -3.92,-3.91 57.26,-3.91 57.26,4.91 -3.92,4.91 -3.92,-3.91 ; -1,3.1 1,3.1 1,4.91 -1,4.91 -1,3.1 ; -0.3,5.71 0,5.11 0.3,5.71 -0.3,5.71 ; 6.62,3.1 8.62,3.1 8.62,4.91 6.62,4.91 6.62,3.1 ; 14.24,3.1 16.24,3.1 16.24,4.91 14.24,4.91 14.24,3.1 ; 21.86,3.1 23.86,3.1 23.86,4.91 21.86,4.91 21.86,3.1 ; 29.48,3.1 31.48,3.1 31.48,4.91 29.48,4.91 29.48,3.1 ; 37.1,3.1 39.1,3.1 39.1,4.91 37.1,4.91 37.1,3.1 ; 44.72,3.1 46.72,3.1 46.72,4.91 44.72,4.91 44.72,3.1 ; 52.34,3.1 54.34,3.1 54.34,4.91 52.34,4.91 52.34,3.1
Top Assembly:
  lines w0.254: -3.81,-3.8 57.15,-3.8 57.15,4.8 -3.81,4.8 -3.81,-3.8 ; -0.5,3.55 0,2.55 0.5,3.55 -0.5,3.55
  text "'.Designator'" at 22.623,3.26 h1
Top Courtyard:
  lines w0.254: -4.32,-4.3 57.65,-4.3 57.65,5.3 -4.32,5.3 -4.32,-4.3
Top Designator:
  text ".Designator" at 19.047,0.197 h1.52

## PhoenixContact_GMSTBVA_2,5_8-G_1x08_P7.50mm_Vertical [mm]
pads (8):
  rrect12% 2x3.6 hole 1.4: 1(0,0)
  rrect100% 2x3.6 hole 1.4: 2(7.5,0) 3(15,0) 4(22.5,0) 5(30,0) 6(37.5,0) 7(45,0) 8(52.5,0)
F.SilkS:
  lines w0.254: -3.86,4.1 -1.11,4.1 ; 1,4.1 6.5,4.1 ; 1.987,-2.216 cw(c0,-0.55) -2,-2.2 -2.95,-2.2 -2.95,3.1 55.45,3.1 55.45,-2.2 54.5,-2.2 ; 2,-2.2 5.5,-2.2 ccw(c7.5,-0.55) 9.487,-2.216 ; 8.5,4.1 14,4.1 ; 9.5,-2.2 13,-2.2 ccw(c15,-0.55) 16.987,-2.216 ; 16,4.1 21.5,4.1 ; 17,-2.2 20.5,-2.2 ccw(c22.5,-0.55) 24.487,-2.216 ; 23.5,4.1 29,4.1 ; 24.5,-2.2 28,-2.2 ccw(c30,-0.55) 31.987,-2.216 ; 31,4.1 36.5,4.1 ; 32,-2.2 35.5,-2.2 ccw(c37.5,-0.55) 39.487,-2.216 ; 38.5,4.1 44,4.1 ; 39.5,-2.2 43,-2.2 ccw(c45,-0.55) 46.987,-2.216 ; 46,4.1 51.5,4.1 ; 47,-2.2 50.5,-2.2 ccw(c52.5,-0.55) 54.487,-2.216 ; 53.61,4.1 56.36,4.1 ; -3.86,-3.91 56.36,-3.91 56.36,4.91 -3.86,4.91 -3.86,-3.91 ; -1,3.1 1,3.1 1,4.91 -1,4.91 -1,3.1 ; -0.3,5.71 0,5.11 0.3,5.71 -0.3,5.71 ; 6.5,3.1 8.5,3.1 8.5,4.91 6.5,4.91 6.5,3.1 ; 14,3.1 16,3.1 16,4.91 14,4.91 14,3.1 ; 21.5,3.1 23.5,3.1 23.5,4.91 21.5,4.91 21.5,3.1 ; 29,3.1 31,3.1 31,4.91 29,4.91 29,3.1 ; 36.5,3.1 38.5,3.1 38.5,4.91 36.5,4.91 36.5,3.1 ; 44,3.1 46,3.1 46,4.91 44,4.91 44,3.1 ; 51.5,3.1 53.5,3.1 53.5,4.91 51.5,4.91 51.5,3.1
Top Assembly:
  lines w0.254: -3.75,-3.8 56.25,-3.8 56.25,4.8 -3.75,4.8 -3.75,-3.8 ; -0.5,3.55 0,2.55 0.5,3.55 -0.5,3.55
  text "'.Designator'" at 22.203,3.26 h1
Top Courtyard:
  lines w0.254: -4.25,-4.3 56.75,-4.3 56.75,5.3 -4.25,5.3 -4.25,-4.3
Top Designator:
  text ".Designator" at 18.632,0.197 h1.52